# Altium integrated library Switch.IntLib: 1 symbol
Pins are listed as number, name and electrical type; pins without a type are passive.

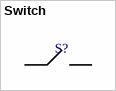
[diagram p0: symbol Switch]

## Switch
designator S?  (value not drawn)
Manufacturer: Alps Alpine; Manufacturer Part Number: SKRPACE010; Suplier Part  Number: 4809-SKRPACE010TR-ND; Suplier: DigiKey
footprint Switch - duplicate
pins: 1, 2